# Altium schematic symbol library SI2302DDS-T1-GE3.SchLib: 1 symbol
Pins are listed as number, name and electrical type; pins without a type are passive.

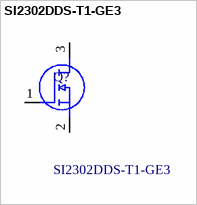
[diagram p0: symbol SI2302DDS-T1-GE3]

## SI2302DDS-T1-GE3
designator Q?
SI2302DDS-T1-GE3 N-Channel MOSFET, 2.6 A, 20 V, 3-Pin SOT-363 Vishay; Geometry.Height: 1.12mm; Mouser Part Number: 78-SI2302DDS-T1-GE3; Mouser Price/Stock: https://www.mouser.co.uk/ProductDetail/Vishay-Semiconductors/SI2302DDS-T1-GE3?qs=MxnWX8BLHKdaCSNWhg%252BxLA%3D%3D; Manufacturer_Name: Vishay; Manufacturer_Part_Number: SI2302DDS-T1-GE3; Datasheet Link: http://www.vishay.com/docs/63653/si2302dds.pdf
footprint SOT95P237X112-3N
pins: 1 G, 2 S, 3 D